# Altium schematic symbol library DCDC_CONV_Test.SchLib: 4 symbols
Pins are listed as number, name and electrical type; pins without a type are passive.

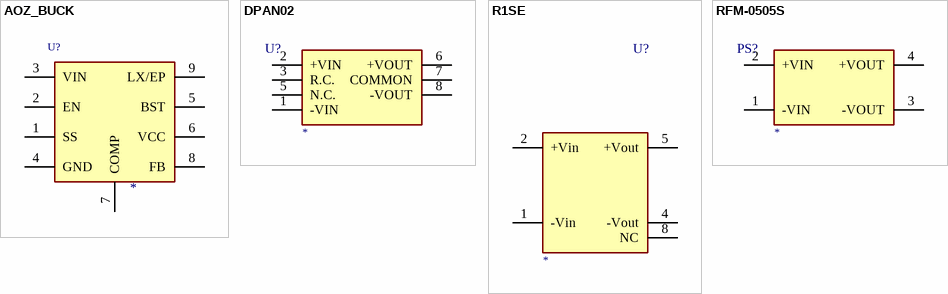
[diagram p0: symbols AOZ_BUCK to RFM-0505S]

## AOZ_BUCK
designator U?
POWER IC EZ BUCK; Manufacturer Part Number: *
pins: 1 SS, 2 EN, 3 VIN, 4 GND, 5 BST, 6 VCC, 7 COMP, 8 FB, 9 LX/EP

## DPAN02
designator U?, comment DPAN02A-12  (value not drawn)
DC DC CONVERTER +/-12V 2W; Manufacturer Part Number: *
pins: 1 -VIN, 2 +VIN, 3 R.C., 5 N.C., 6 +VOUT, 7 COMMON, 8 -VOUT

## R1SE
designator U?
R1SE SERIES DC DC CONVERTER; Manufacturer Part Number: *
pins: 1 -Vin, 2 +Vin, 4 -Vout, 5 +Vout, 8 NC

## RFM-0505S
designator PS?
DC DC CONVERTER 5V 1W; Manufacturer part Number: *
pins: 1 -VIN, 2 +VIN, 3 -VOUT, 4 +VOUT